# Altium footprint library PCB - LEADLESS - SON - TI WSON-12 DRR0012G.PcbLib: 1 footprints
Each footprint in its own frame and in the unit in brackets; x right, y up, seen from the top. Pads: shape width x height; smd on the part's side, far side on the other; paste and mask are expansions set on the pad; w line width, h text height; cw(c..) or ccw(c..) is an arc to the next point about the centre after c.
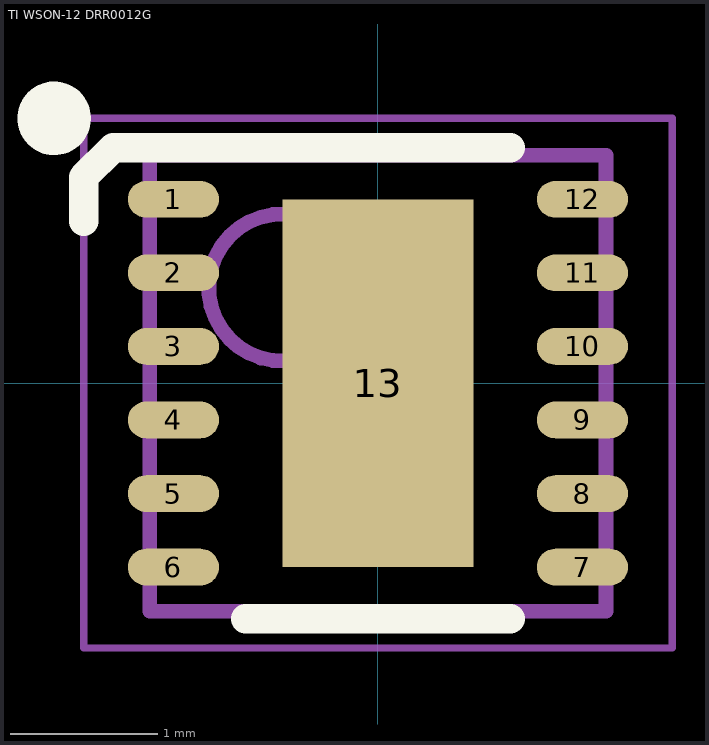
[diagram p0: the footprint, top view; thin cyan lines are the x and y axes]

## TI WSON-12 DRR0012G [mm] "WSON, 12-Leads, Body 3.00x3.00mm, Pitch 0.50mm, Thermal Pad 1.30x2.50mm"
height 0.8
pads (13):
  oval 0.62x0.25 smd: 1(-1.39,1.25) 2(-1.39,0.75) 3(-1.39,0.25) 4(-1.39,-0.25) 5(-1.39,-0.75) 6(-1.39,-1.25) 7(1.39,-1.25) 8(1.39,-0.75) 9(1.39,-0.25) 10(1.39,0.25) 11(1.39,0.75) 12(1.39,1.25)
  rect 1.3x2.5 smd: 13(0,0)
Top Overlay:
  circle w0.25: c-2.2,1.8 r0.125
  lines w0.2: -2,1.1 -2,1.4 -1.8,1.6 -0.9,1.6 0.9,1.6 ; -0.9,-1.6 0.9,-1.6
Mechanical 13:
  circle w0.1: c-0.65,0.65 r0.5
  lines w0.1: -1.55,-1.55 -1.55,1.55 1.55,1.55 1.55,-1.55 -1.55,-1.55
Mechanical 15:
  lines w0.05: -2,-1.8 -2,1.8 2,1.8 2,-1.8 -2,-1.8
  lines w0.1: -0.5,0 0.5,0 ; 0,-0.5 0,0.5
3D body "TI WSON-12 DRR0012G.step": height 0.8, standoff 0, extent -1.56,-1.55 1.56,1.55